# Altium footprint library RHD2000_eval_board.PCBLIB: 44 footprints (part 1 of 3)
Each footprint in its own frame and in the unit in brackets; x right, y up, seen from the top. Pads: shape width x height; smd on the part's side, far side on the other; paste and mask are expansions set on the pad; w line width, h text height; cw(c..) or ccw(c..) is an arc to the next point about the centre after c.
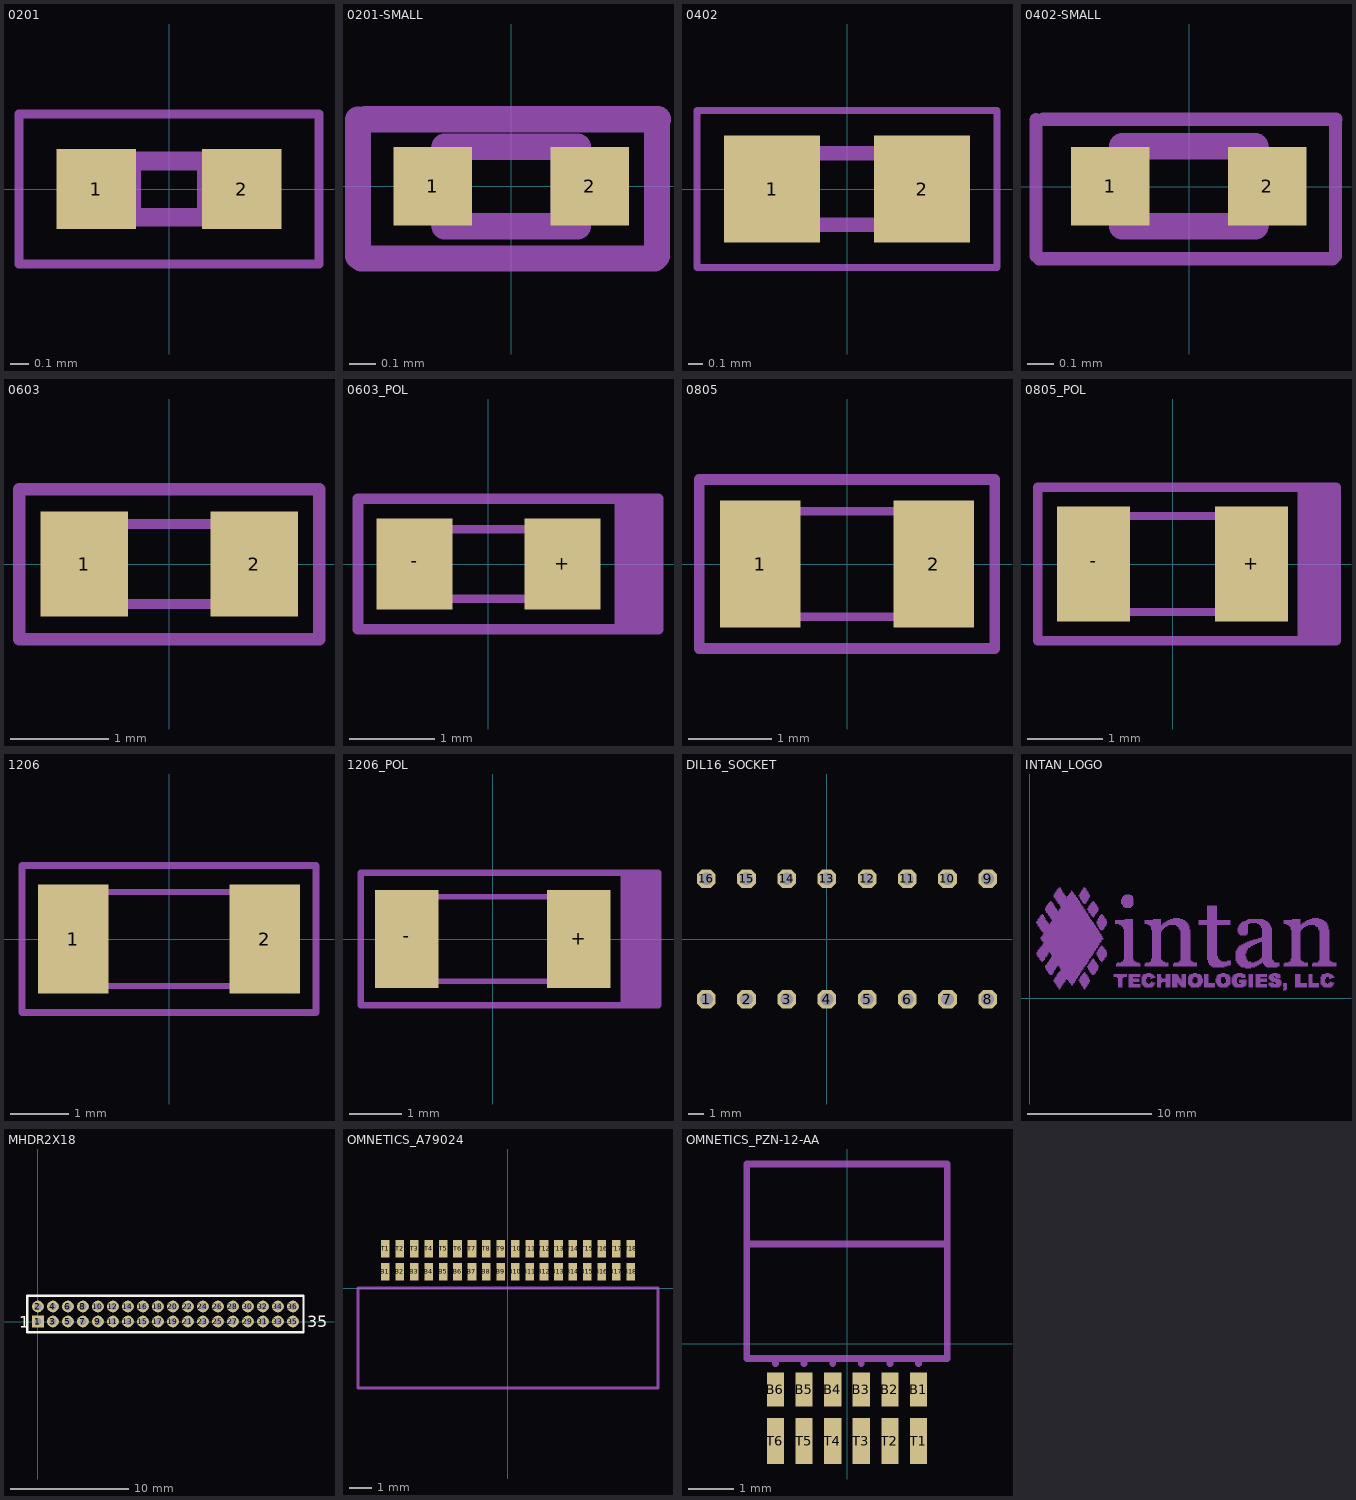
[diagram p0: the footprints below, top view; thin cyan lines are the x and y axes]

## 0201 [mil]
pads (2):
  rect 17x17 smd: 1(-15.5,0) 2(15.5,0)
Mechanical 8:
  region: 6,-6 6,6 12,6 12,-6
  region: -12,-6 -12,6 -6,6 -6,-6
  lines w4: -10,-6 10,-6 ; -10,6 10,6
Mechanical 22:
  lines w2: -32,-16 -32,16 32,16 32,-16 -32,-16
  text ".Designator" at -28.44,-9.92 h6

## 0201-SMALL [mm]
pads (2):
  rect 0.3x0.3 smd: 1(-0.3,0) 2(0.3,0)
Mechanical 8:
  region: -0.305,-0.152 -0.305,0.152 -0.152,0.152 -0.152,-0.152
  region: 0.152,-0.152 0.152,0.152 0.305,0.152 0.305,-0.152
Mechanical 15:
  lines w0.1: -0.585,-0.265 -0.585,0.255 ; -0.572,-0.275 0.548,-0.275 ; -0.557,0.257 0.561,0.257 ; 0.558,-0.265 0.558,0.255
  lines w0.102: -0.254,-0.152 0.254,-0.152 ; -0.254,0.152 0.254,0.152
Mechanical 22:
  lines w0.051: -0.584,-0.266 -0.584,0.254 ; -0.571,-0.276 0.549,-0.276 ; -0.556,0.256 0.562,0.256 ; 0.56,-0.266 0.56,0.254
  text ".Designator" at -0.479,-0.158 h0.15

## 0402 [mil]
pads (2):
  rect 27x30 smd: 1(-21,0) 2(21,0)
Mechanical 8:
  region: 10,-10 10,10 20,10 20,-10
  region: -20,-10 -20,10 -10,10 -10,-10
  lines w4: -18,-10 18,-10 ; -18,10 18,10
Mechanical 22:
  lines w2: -42,-22 -42,22 42,22 42,-22 -42,-22
  text ".Designator" at -26.97,-15.23 h6

## 0402-SMALL [mm]
pads (2):
  rect 0.3x0.3 smd: 1(-0.302,0.002) 2(0.298,0.002)
Mechanical 8:
  region: 0.151,-0.151 0.151,0.154 0.303,0.154 0.303,-0.151
  region: -0.307,-0.151 -0.307,0.154 -0.154,0.154 -0.154,-0.151
Mechanical 15:
  lines w0.102: -0.256,-0.151 0.252,-0.151 ; -0.256,0.154 0.252,0.154
Mechanical 22:
  lines w0.051: -0.586,-0.264 -0.586,0.255 ; -0.573,-0.275 0.547,-0.275 ; -0.558,0.257 0.56,0.257 ; 0.558,-0.264 0.558,0.255
  text ".Designator" at -0.481,-0.171 h0.15

## 0603 [mil]
pads (2):
  rect 35x42 smd: 1(-34,0) 2(34,0)
Mechanical 8:
  region: 20,-16 20,16 32,16 32,-16
  region: -32,-16 -32,16 -20,16 -20,-16
  lines w4: -30,-16 30,-16 ; -30,16 30,16
Mechanical 22:
  lines w5: -60,-30 -60,30 60,30 60,-30 -60,-30
  text ".Designator" at -29.52,-23.42 h6

## 0603_POL [mil]
pads (2):
  rect 35x42 smd: +(34,0) -(-34,0)
Mechanical 8:
  region: 20,-16 20,16 32,16 32,-16
  region: -32,-16 -32,16 -20,16 -20,-16
  lines w4: -30,-16 30,-16 ; -30,16 30,16
Mechanical 22:
  region: 58,-30 58,30 78,30 78,-30
  lines w5: -60,-30 -60,30 78,30 78,-30 -60,-30
  text ".Designator" at -26.81,-10.53 h6

## 0805 [mil]
pads (2):
  rect 38x60 smd: 1(-41,0) 2(41,0)
Mechanical 8:
  region: 24,-25 24,25 40,25 40,-25
  region: -40,-25 -40,25 -24,25 -24,-25
  lines w4: -38,-25 38,-25 ; -38,25 38,25
Mechanical 22:
  lines w5: -70,-40 -70,40 70,40 70,-40 -70,-40
  text ".Designator" at -26.64,-3.46 h6

## 0805_POL [mil]
pads (2):
  rect 38x60 smd: +(41,0) -(-41,0)
Mechanical 8:
  region: -40,-25 -40,25 -24,25 -24,-25
  region: 24,-25 24,25 40,25 40,-25
  lines w4: -38,-25 38,-25 ; -38,25 38,25
Mechanical 22:
  region: 65,-40 65,40 85,40 85,-40
  lines w5: -70,-40 85,-40 85,40 -70,40 -70,-40
  text ".Designator" at -22.62,-2.68 h6

## 1206 [mil]
pads (2):
  rect 48x74 smd: 1(-65,0) 2(65,0)
Mechanical 8:
  region: 43,-32 43,32 63,32 63,-32
  region: -63,-32 -63,32 -43,32 -43,-32
  lines w4: -61,-32 61,-32 ; -61,32 61,32
Mechanical 22:
  lines w5: -100,-50 -100,50 100,50 100,-50 -100,-50

## 1206_POL [mil]
pads (2):
  rect 48x74 smd: +(65,0) -(-65,0)
Mechanical 8:
  region: -63,-32 -63,32 -43,32 -43,-32
  region: 43,-32 43,32 63,32 63,-32
  lines w4: -61,-32 61,-32 ; -61,32 61,32
Mechanical 22:
  region: 97,-50 97,50 125,50 125,-50
  lines w5: -100,-50 125,-50 125,50 -100,50 -100,-50

## DIL16_SOCKET [mil]
pads (16):
  oct 46.48x46.48 / inner oct 60x60 / far side oct 46.48x46.48 hole 32: 1(-300,-150) 2(-200,-150) 3(-100,-150) 4(0,-150) 5(100,-150) 6(200,-150) 7(300,-150) 8(400,-150) 9(400,150) 10(300,150) 11(200,150) 12(100,150) 13(0,150) 14(-100,150) 15(-200,150) 16(-300,150)

## INTAN_LOGO [mil]
Mechanical 22:
  drawing of 977 lines, arcs and shapes, not listed

## INTAN_LOGO_LARGE [mil]

## MHDR2X18 [mm] "Connector; Header; 18x2 Position"
pads (36):
  rect 1x1 hole 0.6: 1(0,0)
  round 1 hole 0.6: 2(0,1.27) 3(1.27,0) 4(1.27,1.27) 5(2.54,0) 6(2.54,1.27) 7(3.81,0) 8(3.81,1.27) 9(5.08,0) 10(5.08,1.27) 11(6.35,0) 12(6.35,1.27) 13(7.62,0) 14(7.62,1.27) 15(8.89,0) 16(8.89,1.27) 17(10.16,0) 18(10.16,1.27) 19(11.43,0) 20(11.43,1.27) 21(12.7,0) 22(12.7,1.27) 23(13.97,0) 24(13.97,1.27) 25(15.24,0) 26(15.24,1.27) 27(16.51,0) 28(16.51,1.27) 29(17.78,0) 30(17.78,1.27) 31(19.05,0) 32(19.05,1.27) 33(20.32,0) 34(20.32,1.27) 35(21.59,0) 36(21.59,1.27)
Top Overlay:
  lines w0.2: -0.9,-0.9 -0.9,2.17 22.49,2.17 22.49,-0.9 -0.9,-0.9
  text "35" at 22.8,-0.501 h1
  text "1" at -1.6,-0.508 h1
3D body "pcb_connector_852-10-036-20-001101.stp": height 3.1, standoff -3.45, extent -0.84,-0.148 22.43,7.427

## OMNETICS_A79024 [mil]
pads (36):
  rect 15x30 smd: B1(-212.5,28) B2(-187.5,28) B3(-162.5,28) B4(-137.5,28) B5(-112.5,28) B6(-87.5,28) B7(-62.5,28) B8(-37.5,28) B9(-12.5,28) B10(12.5,28) B11(37.5,28) B12(62.5,28) B13(87.5,28) B14(112.5,28) B15(137.5,28) B16(162.5,28) B17(187.5,28) B18(212.5,28) T1(-212.5,68) T2(-187.5,68) T3(-162.5,68) T4(-137.5,68) T5(-112.5,68) T6(-87.5,68) T7(-62.5,68) T8(-37.5,68) T9(-12.5,68) T10(12.5,68) T11(37.5,68) T12(62.5,68) T13(87.5,68) T14(112.5,68) T15(137.5,68) T16(162.5,68) T17(187.5,68) T18(212.5,68)
Mechanical 22:
  lines w5: -260,-173 -260,0 260,0 260,-173 -260,-173
  text ".Designator" at -25.69,-97.22 h6
3D body "A79025-001.STEP": height 66.5, standoff -4, extent -257.27,-212.85 257.74,80.15

## OMNETICS_PZN-12-AA [mil]
pads (12):
  rect 15x30 smd: B1(62.5,-40) B2(37.5,-40) B3(12.5,-40) B4(-12.5,-40) B5(-37.5,-40) B6(-62.5,-40)
  rect 15x40 smd: T1(62.5,-85) T2(37.5,-85) T3(12.5,-85) T4(-12.5,-85) T5(-37.5,-85) T6(-62.5,-85)
Mechanical 22:
  lines w6: -62.5,-17.5 -62.5,-13 ; -37.5,-17.5 -37.5,-13 ; -12.5,-17.5 -12.5,-13 ; 12.5,-17.5 12.5,-13 ; 37.5,-17.5 37.5,-13 ; 62.5,-17.5 62.5,-13 ; -87.5,87 87.5,87 ; -87.5,87 -87.5,157 87.5,157 87.5,87 ; -87.5,87 -87.5,-13 -62.5,-13 ; -62.5,-13 -37.5,-13 ; -37.5,-13 -12.5,-13 ; -12.5,-13 12.5,-13 ; 12.5,-13 37.5,-13 ; 37.5,-13 62.5,-13 ; 62.5,-13 87.5,-13 87.5,87
  text ".Designator" at -27.32,27.13 h6